# EAGLE library part TLC5925 (library FiveVolt)
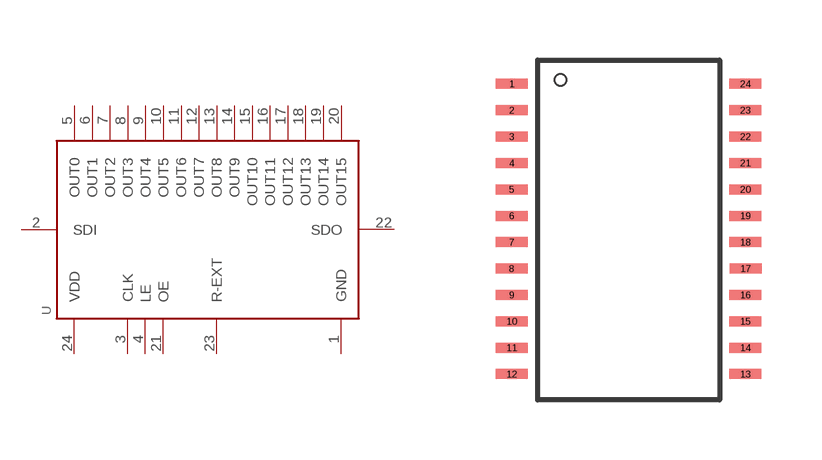
[diagram p6: symbol with the pads of TSSOP24; footprint TSSOP24]

Designator prefix -

## TLC5925  [TSSOP24]
1  GND
2  SDI
3  CLK
4  LE
5  OUT0
6  OUT1
7  OUT2
8  OUT3
9  OUT4
10  OUT5
11  OUT6
12  OUT7
13  OUT8
14  OUT9
15  OUT10
16  OUT11
17  OUT12
18  OUT13
19  OUT14
20  OUT15
21  OE
22  SDO
23  R-EXT
24  VDD

## Footprint TSSOP24 (pad centres in mm)
smd 0.8 x 0.25: 1 -2.921,3.353; 2 -2.921,2.692; 3 -2.921,2.032; 4 -2.921,1.372; 5 -2.921,0.711; 6 -2.921,0.051; 7 -2.921,-0.61; 8 -2.927,-1.27; 9 -2.921,-1.93; 10 -2.921,-2.591; 11 -2.921,-3.251; 12 -2.921,-3.912; 13 2.921,-3.912; 14 2.921,-3.251; 15 2.921,-2.591; 16 2.921,-1.93; 17 2.927,-1.27; 18 2.921,-0.61; 19 2.921,0.051; 20 2.921,0.711; 21 2.921,1.372; 22 2.921,2.032; 23 2.921,2.692; 24 2.921,3.353